# Altium footprint library pcbLib_Switch_Powerdetec.PcbLib: 30 footprints (part 1 of 2)
Each footprint in its own frame and in the unit in brackets; x right, y up, seen from the top. Pads: shape width x height; smd on the part's side, far side on the other; paste and mask are expansions set on the pad; w line width, h text height; cw(c..) or ccw(c..) is an arc to the next point about the centre after c.
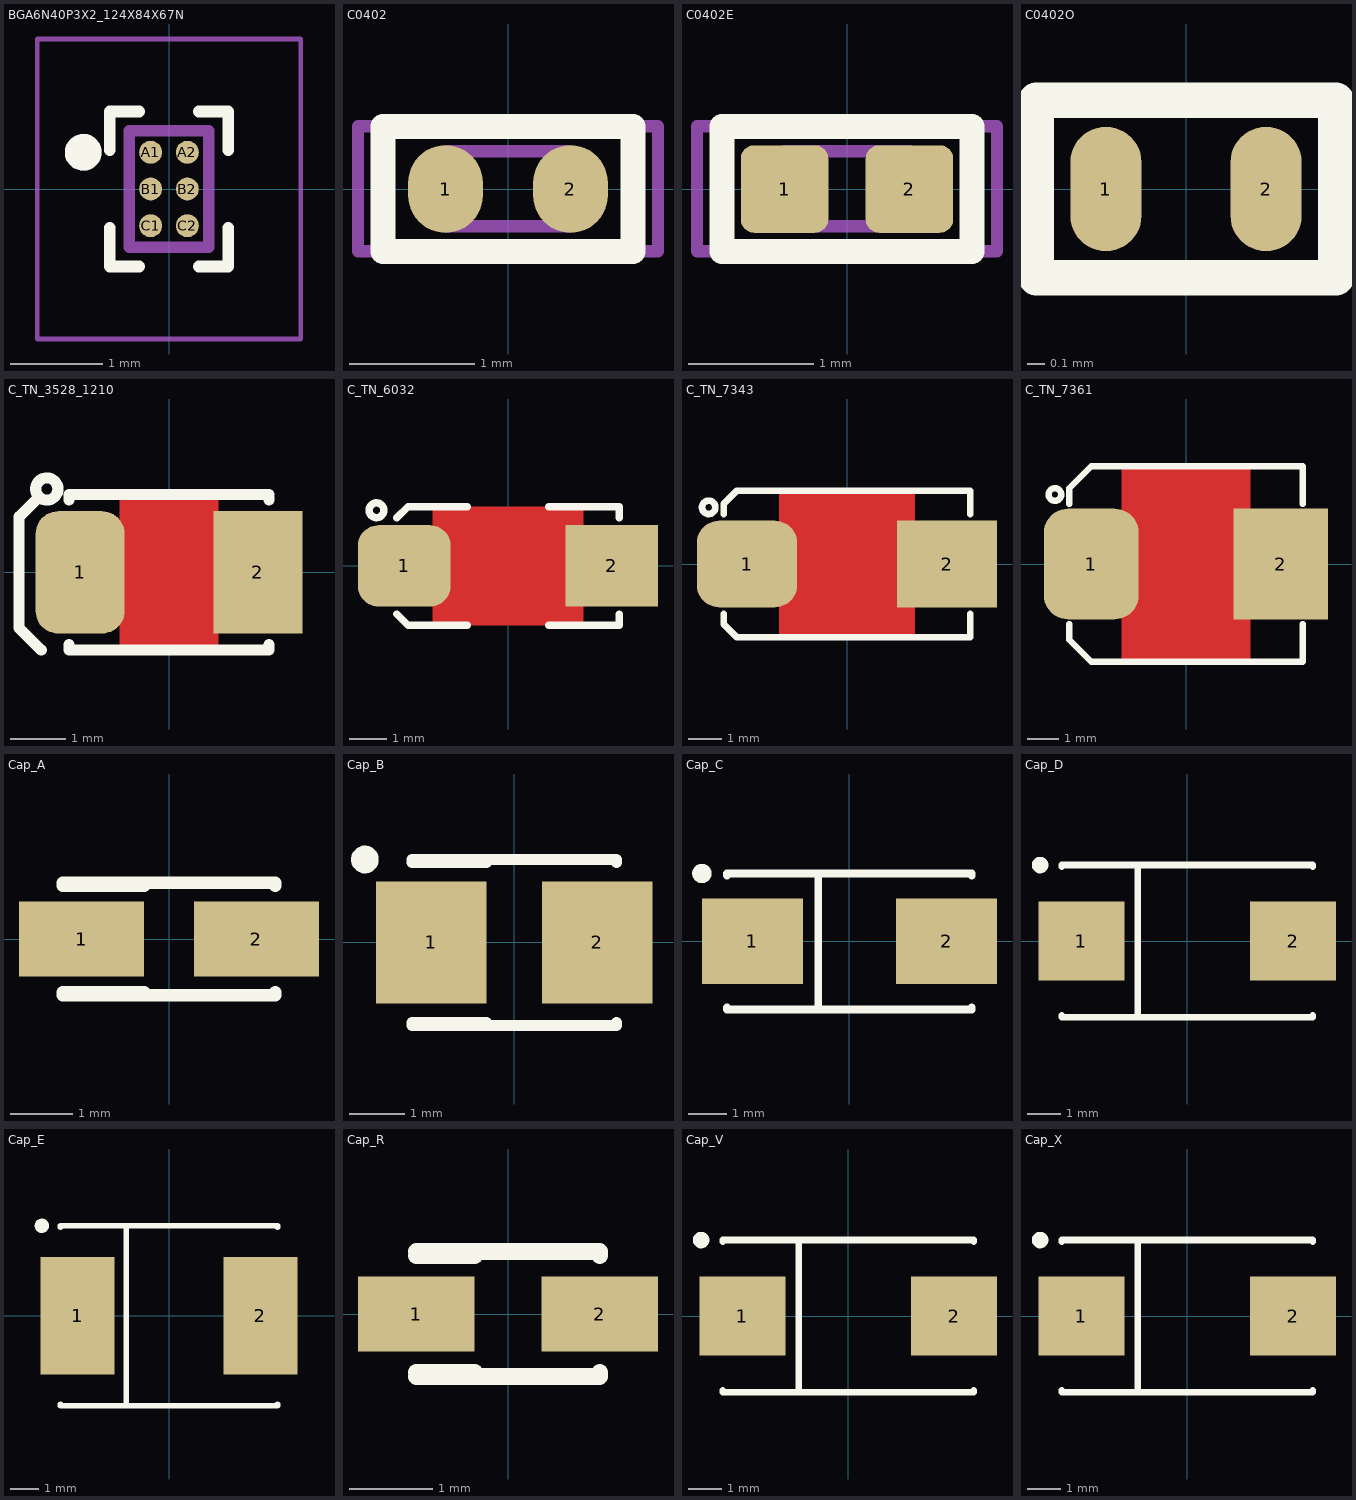
[diagram p0: the footprints below, top view; thin cyan lines are the x and y axes]

## BGA6N40P3X2_124X84X67N [mm]
pads (6):
  round 0.25 smd: A1(-0.2,0.4) A2(0.2,0.4) B1(-0.2,0) B2(0.2,0) C1(-0.2,-0.4) C2(0.2,-0.4)
Top Overlay:
  circle w0.2: c-0.935,0.4 r0.1
  lines w0.127: -0.645,-0.423 -0.645,-0.845 -0.323,-0.845 ; -0.645,0.423 -0.645,0.845 -0.323,0.845 ; 0.323,-0.845 0.645,-0.845 0.645,-0.423 ; 0.323,0.845 0.645,0.845 0.645,0.423
Mechanical 13:
  circle w0.2: c-0.935,0.4 r0.1
  lines w0.127: -0.435,-0.635 -0.435,0.635 0.435,0.635 0.435,-0.635 -0.435,-0.635
Mechanical 15:
  lines w0.05: -1.435,-1.635 -1.435,1.635 1.435,1.635 1.435,-1.635 -1.435,-1.635
3D body "User Library-DSBGA-6_YBG0006.step": height 0.5, standoff 0, extent -0.475,-0.737 0.475,0.753
3D body: height 0.51, standoff 0.5, extent 0.233,-0.723 0.34,-0.583
3D body: height 0.51, standoff 0.5, extent 0.269,-0.571 0.292,-0.545
3D body: height 0.51, standoff 0.5, extent 0.397,-0.663 0.42,-0.638
3D body: height 0.51, standoff 0.5, extent 0.358,-0.723 0.466,-0.582

## C0402 [mm] "CHIP Capacitor, 1.0X0.5mm, 0402"
height 0.4
pads (2):
  oval 0.6x0.7 smd mask+0.075: 1(-0.5,0) 2(0.5,0)
Top Overlay:
  lines w0.2: -1,-0.5 -1,0.5 1,0.5 1,-0.5 -1,-0.5
Mechanical 13:
  lines w0.1: -0.5,-0.3 0.5,-0.3 0.5,0.3 -0.5,0.3 -0.5,-0.3
Mechanical 15:
  lines w0.1: -1.2,-0.5 -1.2,0.5 1.2,0.5 1.2,-0.5 -1.2,-0.5
3D body "User Library-0402C.step": height 0.36, standoff 0, extent -0.5,-0.265 0.5,0.265

## C0402E [mm] "CHIP Capacitor, 1.0X0.5mm, 0402, EXPANDED PAD"
height 0.4
pads (2):
  rrect30% 0.7x0.7 smd mask+0.075: 1(-0.5,0) 2(0.5,0)
Top Overlay:
  lines w0.2: -1,-0.5 1,-0.5 1,0.5 -1,0.5 -1,-0.5
Mechanical 13:
  lines w0.1: -0.5,-0.3 -0.5,0.3 0.5,0.3 0.5,-0.3 -0.5,-0.3
Mechanical 15:
  lines w0.1: -1.2,-0.5 1.2,-0.5 1.2,0.5 -1.2,0.5 -1.2,-0.5
3D body "User Library-0402C.step": height 0.36, standoff 0, extent -0.5,-0.265 0.5,0.265

## C0402O [mm] "CHIP Capacitor, 1.0X0.5mm, 0402 OPTIMIZED"
height 0.4
pads (2):
  oval 0.4x0.7 smd: 1(-0.45,0) 2(0.45,0)
Top Overlay:
  lines w0.2: -0.844,-0.5 0.844,-0.5 0.844,0.5 -0.844,0.5 -0.844,-0.5
3D body "User Library-0402C.step": height 0.36, standoff 0, extent -0.5,-0.265 0.5,0.265

## C_TN_3528_1210 [mm] "CAPACITOR, TAN B, TAN H, TAN T, TAN M, 3528P, 1210P, 3.5X2.8mm"
pads (2):
  rrect50% 1.6x2.2 smd mask+0.1: 1(-1.6,0)
  rect 1.6x2.2 smd mask+0.1: 2(1.6,0)
Top Layer:
  pour cut-out: -0.889,1.4 -0.889,-1.4 0.889,-1.4 0.889,1.4
Top Overlay:
  circle w0.2: c-2.2,1.5 r0.2
  lines w0.2: -2.35,1.35 -2.7,1 -2.7,-1 -2.3,-1.4 ; -1.8,-1.3 -1.8,-1.4 1.8,-1.4 1.8,-1.3 ; -1.8,1.3 -1.8,1.4 1.8,1.4 1.8,1.3
3D body "User Library-AVX_BCASE.step": height 2.03, standoff 0, extent -1.85,-1.465 1.85,1.465

## C_TN_6032 [mm] "CAPACITOR, TAN C, TAN F, TAN U, TAN L, 6032P, 6.0X3.2mm"
height 2.8
pads (2):
  rrect50% 2.5x2.2 smd: 1(-2.8,0)
  rect 2.5x2.2 smd: 2(2.8,0)
Top Layer:
  pour cut-out: -2.032,1.6 2.032,1.6 2.032,-1.6 -2.032,-1.6
Top Overlay:
  circle w0.2: c-3.55,1.5 r0.2
  lines w0.2: -3,-1.3 -2.7,-1.6 -1.1,-1.6 ; -3,1.3 -2.7,1.6 -1.1,1.6 ; 1.1,-1.6 3,-1.6 3,-1.3 ; 1.1,1.6 3,1.6 3,1.3
3D body "User Library-CAP_TANT_6032-28_y.step": height 2.8, standoff 0, extent -3.15,-1.75 3.15,1.75

## C_TN_7343 [mm] "CAPACITOR, TAN D, TAN E, TAN Y, TAN X, 7343P, 7.3X4.3mm"
height 4.3
pads (2):
  rrect50% 3x2.6 smd: 1(-3,0)
  rect 3x2.6 smd: 2(3,0)
Top Layer:
  pour cut-out: -2.032,2.2 -2.032,-2.2 2.032,-2.2 2.032,2.2
Top Overlay:
  circle w0.2: c-4.15,1.7 r0.2
  lines w0.2: -3.7,-1.5 -3.7,-1.8 -3.3,-2.2 3.7,-2.2 3.7,-1.5 ; -3.7,1.5 -3.7,1.8 -3.3,2.2 3.7,2.2 3.7,1.5
3D body "User Library-AVX_E_CASE.step": height 4.2, standoff 0, extent -3.7,-2.225 3.701,2.225

## C_TN_7361 [mm] "CAPACITOR, TAN V, 2924, 7361, 7.3X6.1mm"
pads (2):
  rrect50% 3x3.5 smd: 1(-3,0)
  rect 3x3.5 smd: 2(3,0)
Top Layer:
  pour cut-out: -2.032,3.048 -2.032,-3.048 2.032,-3.048 2.032,3.048
Top Overlay:
  circle w0.2: c-4.15,2.2 r0.2
  lines w0.2: -3.7,-1.9 -3.7,-2.4 -3,-3.1 3.7,-3.1 3.7,-1.9 ; -3.7,1.9 -3.7,2.4 -3,3.1 3.7,3.1 3.7,1.9
3D body "User Library-CT_V.step": height 3.45, standoff 0, extent -3.65,-3.05 3.65,3.05

## Cap_A [mm] "Capacitor, SM Tantalum; Body 3.2 x 1.6 mm (LxW typ)"
height 1.8
pads (2):
  rect 2x1.2 smd: 1(-1.4,0) 2(1.4,0)
Top Overlay:
  lines w0.2: -1.7,-0.9 1.7,-0.9 1.7,-0.85 ; -1.7,-0.85 -0.4,-0.85 ; -1.7,0.85 -0.4,0.85 ; -1.7,0.9 1.7,0.9 1.7,0.85
3D body "User Library-CAP_TANT_3216-18_A_case-1.step": height 1.7, standoff 0, extent -1.7,-0.9 1.7,0.9

## Cap_B [mm] "Capacitor, SM Tantalum; Body 3.5 x 2.8 mm (LxW typ)"
height 2.1
pads (2):
  rect 2x2.2 smd: 1(-1.5,0) 2(1.5,0)
Top Overlay:
  circle w0.25: c-2.7,1.5 r0.125
  lines w0.2: -1.85,-1.5 1.85,-1.5 1.85,-1.45 ; -1.85,-1.45 -0.5,-1.45 ; -1.85,1.45 -0.5,1.45 ; -1.85,1.5 1.85,1.5 1.85,1.45
3D body "User Library-CaseB_3528-21.SLDPRT": height 1.9, standoff 0, extent -1.75,-1.4 1.75,1.4

## Cap_C [mm] "Capacitor, SM Tantalum; Body 6.0 x 3.2 mm (LxW typ)"
height 2.8
pads (2):
  rect 2.6x2.2 smd: 1(-2.5,0) 2(2.5,0)
Top Overlay:
  circle w0.25: c-3.8,1.75 r0.125
  lines w0.2: -3.15,-1.7 -3.15,-1.75 3.15,-1.75 3.15,-1.7 ; -3.15,1.7 -3.15,1.75 3.15,1.75 3.15,1.7 ; -0.8,-1.75 -0.8,1.75
3D body "User Library-CaseC_6032-28.SLDPRT": height 2.5, standoff 0, extent -3,-1.6 3,1.6

## Cap_D [mm] "Capacitor, SM Tantalum; Body 7.3 x 4.3 mm (LxW typ)"
height 3.1
pads (2):
  rect 2.6x2.4 smd: 1(-3.2,0) 2(3.2,0)
Top Overlay:
  circle w0.25: c-4.45,2.3 r0.125
  lines w0.2: -3.8,-2.25 -3.8,-2.3 3.8,-2.3 3.8,-2.25 ; -3.8,2.25 -3.8,2.3 3.8,2.3 3.8,2.25 ; -1.5,-2.3 -1.5,2.3
3D body "User Library-CaseD_7343-31.SLDPRT": height 2.8, standoff 0, extent -3.65,-2.15 3.65,2.15

## Cap_E [mm] "Capacitor, SM Tantalum; Body 7.3 x 6.0 mm (LxW typ)"
height 3.8
pads (2):
  rect 2.6x4.1 smd: 1(-3.2,0) 2(3.2,0)
Top Overlay:
  circle w0.25: c-4.45,3.15 r0.125
  lines w0.2: -3.8,-3.1 -3.8,-3.15 3.8,-3.15 3.8,-3.1 ; -3.8,3.1 -3.8,3.15 3.8,3.15 3.8,3.1 ; -1.5,-3.15 -1.5,3.15
3D body "User Library-CaseE_7260-38.SLDPRT": height 3.6, standoff 0, extent -3.65,-3 3.65,3

## Cap_R [mm] "Capacitor, SM Tantalum; Body 2.0 x 1.3 mm (LxW typ)"
height 1.2
pads (2):
  rect 1.4x0.9 smd: 1(-1.1,0) 2(1.1,0)
Top Overlay:
  lines w0.2: -1.1,-0.75 1.1,-0.75 1.1,-0.7 ; -1.1,-0.7 -0.4,-0.7 ; -1.1,0.7 -0.4,0.7 ; -1.1,0.75 1.1,0.75 1.1,0.7
3D body "User Library-Tantalum Capacitor Case R.STEP": height 1.35, standoff 0, extent -1.177,-0.685 1.073,0.665

## Cap_V [mm] "Capacitor, SM Tantalum; Body 7.3 x 4.3 mm (LxW typ)"
height 2
pads (2):
  rect 2.6x2.4 smd: 1(-3.2,0) 2(3.2,0)
Top Overlay:
  circle w0.25: c-4.45,2.3 r0.125
  lines w0.2: -3.8,-2.25 -3.8,-2.3 3.8,-2.3 3.8,-2.25 ; -3.8,2.25 -3.8,2.3 3.8,2.3 3.8,2.25 ; -1.5,-2.3 -1.5,2.3
3D body "User Library-CaseV_7343-20.SLDPRT": height 2, standoff 0, extent -3.65,-2.15 3.65,2.15

## Cap_X [mm] "Capacitor, SM Tantalum; Body 7.3 x 4.3 mm (LxW typ)"
height 4.3
pads (2):
  rect 2.6x2.4 smd: 1(-3.2,0) 2(3.2,0)
Top Overlay:
  circle w0.25: c-4.45,2.3 r0.125
  lines w0.2: -3.8,-2.25 -3.8,-2.3 3.8,-2.3 3.8,-2.25 ; -3.8,2.25 -3.8,2.3 3.8,2.3 3.8,2.25 ; -1.5,-2.3 -1.5,2.3
3D body "User Library-CaseX_7343-43.SLDPRT": height 4, standoff 0, extent -3.65,-2.15 3.65,2.15